# Altium footprint library 534998-8.PcbLib: 1 footprints
Each footprint in its own frame and in the unit in brackets; x right, y up, seen from the top. Pads: shape width x height; smd on the part's side, far side on the other; paste and mask are expansions set on the pad; w line width, h text height; cw(c..) or ccw(c..) is an arc to the next point about the centre after c.
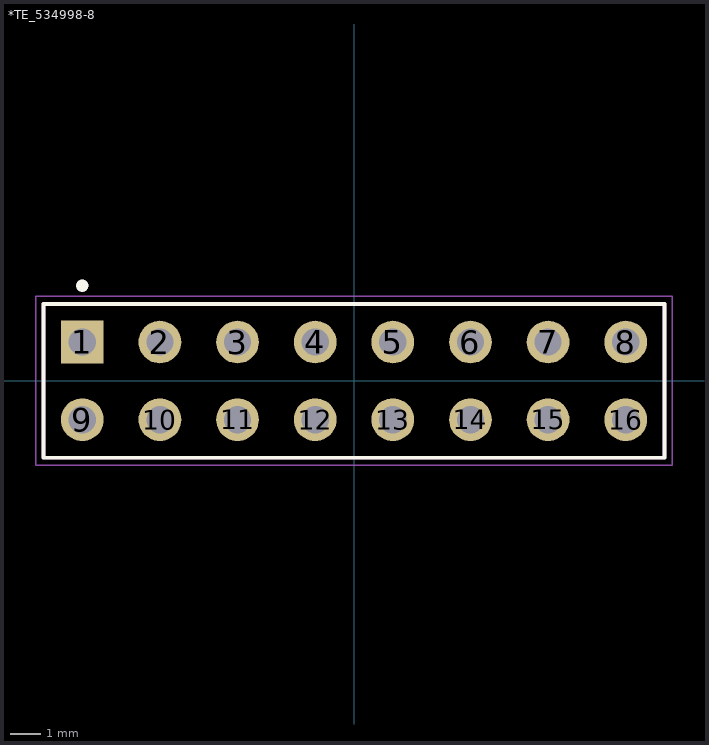
[diagram p0: the footprint, top view; thin cyan lines are the x and y axes]

## *TE_534998-8 [mm]
pads (16):
  rect 1.398x1.398 hole 0.89: 1(-8.89,1.27)
  round 1.398 hole 0.89: 2(-6.35,1.27) 3(-3.81,1.27) 4(-1.27,1.27) 5(1.27,1.27) 6(3.81,1.27) 7(6.35,1.27) 8(8.89,1.27) 9(-8.89,-1.27) 10(-6.35,-1.27) 11(-3.81,-1.27) 12(-1.27,-1.27) 13(1.27,-1.27) 14(3.81,-1.27) 15(6.35,-1.27) 16(8.89,-1.27)
Top Overlay:
  circle w0.2: c-8.89,3.115 r0.1
  lines w0.127: -10.16,-2.515 10.16,-2.515 10.16,2.515 -10.16,2.515 -10.16,-2.515
Mechanical 13:
  circle w0.2: c-8.89,3.115 r0.1
  circle w0.2: c-8.89,3.115 r0.1
  lines w0.127: -10.16,-2.515 10.16,-2.515 ; -10.16,-2.515 -10.16,2.515 ; -10.16,-2.515 10.16,-2.515 ; -10.16,-2.515 -10.16,2.515 ; -10.16,2.515 10.16,2.515 ; -10.16,2.515 10.16,2.515 ; 10.16,-2.515 10.16,2.515 ; 10.16,-2.515 10.16,2.515
Mechanical 15:
  lines w0.05: -10.41,-2.765 10.41,-2.765 10.41,2.765 -10.41,2.765 -10.41,-2.765